# EAGLE library part MAX3373E (library Robot)
Low-Voltage Level Translator Page du fabricant: http://www.maxim-ic.com/quick_view2.cfm/qv_pk/3253 Datasheet: http://datasheets.maxim-ic.com/en/ds/MAX3372E-MAX3393E.pdf
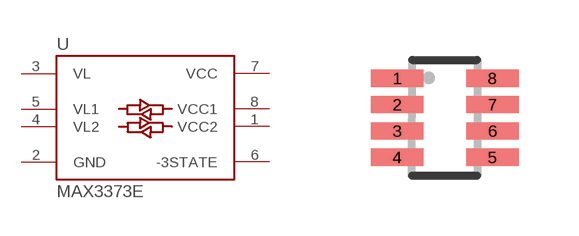
[diagram p4: symbol with the pads of SOT23-8L; footprint SOT23-8L]

Designator prefix -

## MAX3373EEKA+  [SOT23-8L]
1  VCC2
2  GND  pwr
3  VL  pwr
4  VL2
5  VL1
6  -3STATE  in
7  VCC  pwr
8  VCC1

## Footprint SOT23-8L (pad centres in mm)
SOT23-8L Package outline: http://pdfserv.maxim-ic.com/package_dwgs/21-0078.PDF Land pattern: http://pdfserv.maxim-ic.com/land_patterns/90-0176.PDF
smd 1.321 x 0.432: 1 -1.194,0.991; 2 -1.194,0.33; 3 -1.194,-0.33; 4 -1.194,-0.991; 5 1.194,-0.991; 6 1.194,-0.33; 7 1.194,0.33; 8 1.194,0.991